# Altium integrated library CRCW0402100KFKED.IntLib: 1 symbol
Pins are listed as number, name and electrical type; pins without a type are passive.

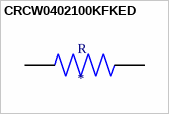
[diagram p0: symbol CRCW0402100KFKED]

## CRCW0402100KFKED
designator R
100 kOhms Â±1% 0.063W, 1/16W Chip Resistor 0402 _1005 Metric_ Automotive AEC-Q200 Thick Film; MP: CRCW0402100KFKED; MF: Vishay; Package: 1005 Panasonic Electronic Components; Value: *; Digi-Key_Purchase_URL: https://www.digikey.pt/product-detail/en/vishay-dale/CRCW0402100KFKED/541-100KLCT-ND/1183351?utm_source=snapeda&utm_medium=aggregator&utm_campaign=symbol; Digi-Key_Part_Number: 541-100KLCT-ND; SnapEDA_Link: https://www.snapeda.com/parts/CRCW0402100KFKED/Vishay%20Dale/view-part/12597/?ref=snap
footprint RESC1005X40N
pins: 1, 2